# Altium schematic symbol library kmilo17pet-LT_OpAmp_LT1000.SchLib: 2280 symbols (part 73 of 79)
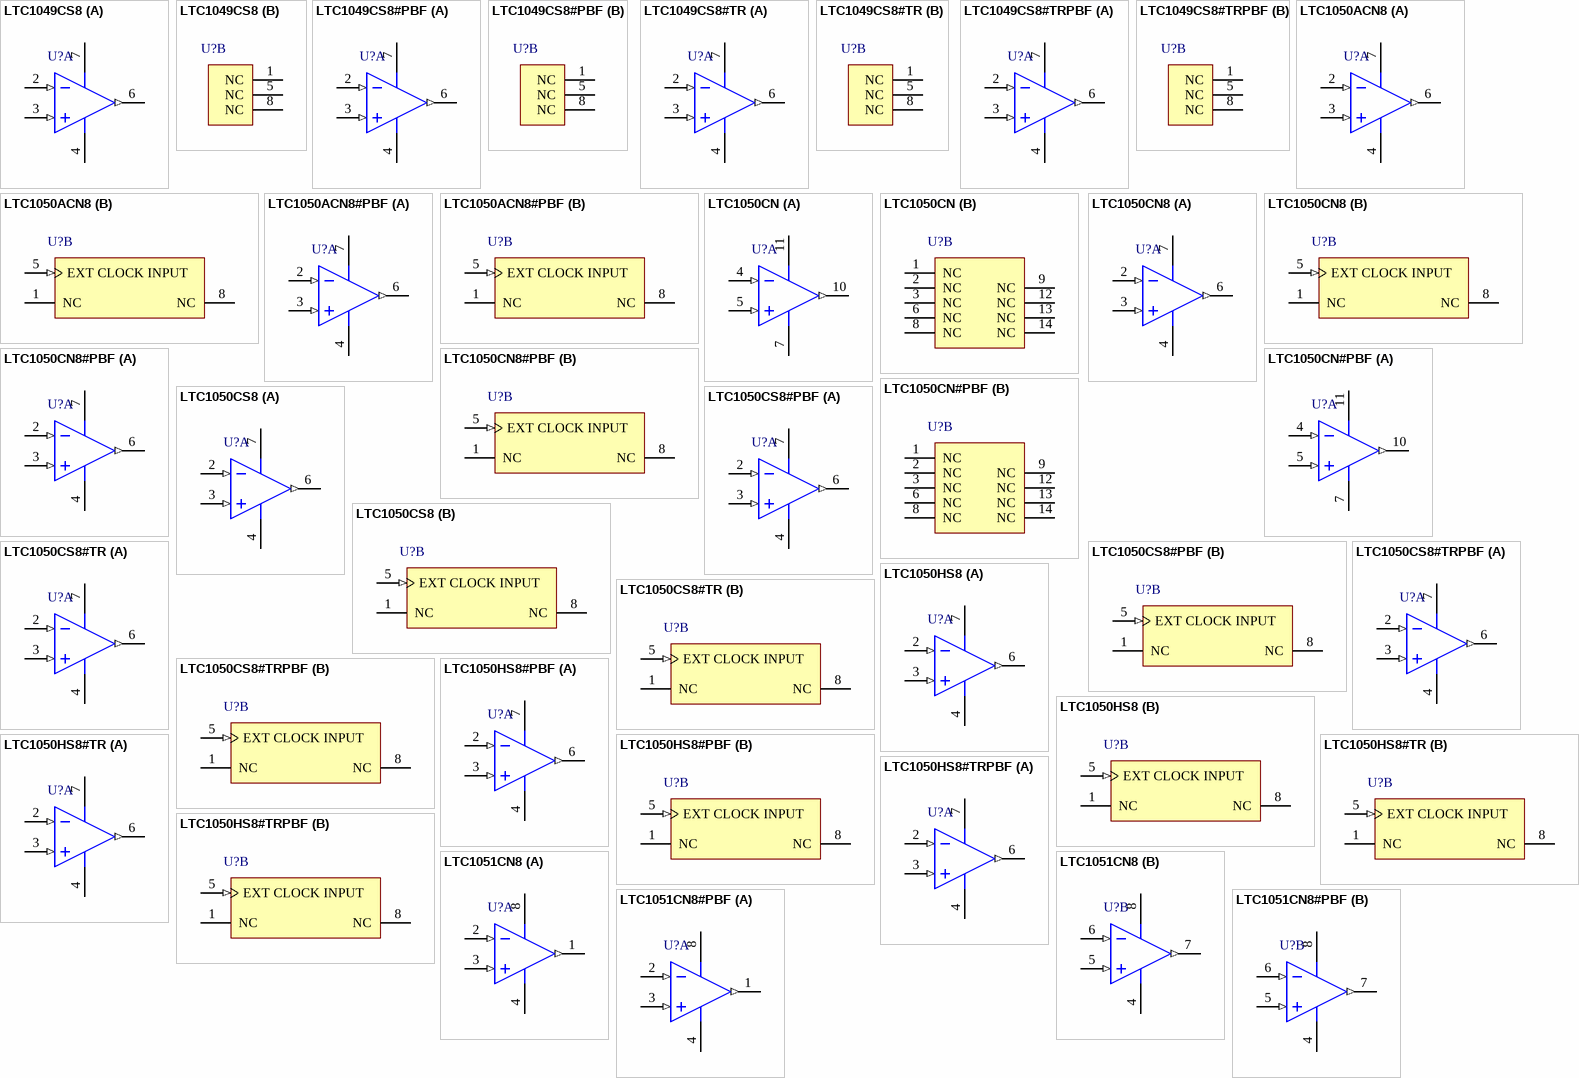
[diagram p177: symbols LTC1049CS8 to LTC1051CN8#PBF]

## LTC1049CS8#TR
designator U?
Single Channel, Low Power, Zero-Drift Operational Amplifier with Internal Capacitors, 0.8 MHz Typical GBW, 0.8 V/us Typical SR, 4.75 to 18 V, 8-Pin SOIC (S8-8), Commercial, Reel; Linear Technology Part Number: LTC1049; Manufacturer: Linear Technology; PartNumber: LTC1049CS8#TR; Channels (#): 1; GBW (MHz) Typical: 0.8; Is (mA) Typical: 0.2; Vos (mV) Typical: 0.002; Vs Max (V): 18; Vs Min (V): 4.75; DatasheetVersion: Rev. B; PackageVersion: Rev G; PackageReference: LT-S8-8; PackageDescription: 8-Pin Plastic Small Outline, Body 4.9 x 3.9 mm, Pitch 1.27 mm; Supplier 1: Digi-Key; Supplier Part Number 1: LTC1049CS8#TR-ND; Packing: Reel; SR (V/us) Typical: 0.8; Type: ZD; Mounting Technology: Surface Mount; ComponentLink1Description: Manufacturer URL; ComponentLink1URL: http://www.linear.com/; ComponentLink2Description: Datasheet; ComponentLink2URL: http://cds.linear.com/docs/en/datasheet/1049fb.pdf; ComponentLink3Description: Package Specification; ComponentLink3URL: http://cds.linear.com/docs/en/packaging/05081610_G_SO8.pdf
footprint LT-S8-8_N (SOIC, 8-Leads, Body 4.9x3.9mm, Pitch 1.27mm, IPC Medium Density)
footprint LT-S8-8_L (SOIC, 8-Leads, Body 4.9x3.9mm, Pitch 1.27mm, IPC High Density)
footprint LT-S8-8_M (SOIC, 8-Leads, Body 4.9x3.9mm, Pitch 1.27mm, IPC Low Density)
part A pins: 2 -IN (in), 3 +IN (in), 4 V- (power), 6 OUT (out), 7 V+ (power)
part B pins: 1 NC, 5 NC, 8 NC

## LTC1049CS8#TRPBF
designator U?
Single Channel, Low Power, Zero-Drift Operational Amplifier with Internal Capacitors, 0.8 MHz Typical GBW, 0.8 V/us Typical SR, 4.75 to 18 V, 8-Pin SOIC (S8-8), Commercial, Pb-Free, Reel; Linear Technology Part Number: LTC1049; Manufacturer: Linear Technology; PartNumber: LTC1049CS8#TRPBF; Channels (#): 1; GBW (MHz) Typical: 0.8; Is (mA) Typical: 0.2; Vos (mV) Typical: 0.002; Vs Max (V): 18; Vs Min (V): 4.75; DatasheetVersion: Rev. B; PackageVersion: Rev G; PackageReference: LT-S8-8; PackageDescription: 8-Pin Plastic Small Outline, Body 4.9 x 3.9 mm, Pitch 1.27 mm; Supplier 1: Digi-Key; Supplier Part Number 1: LTC1049CS8#TRPBF-ND; Packing: Reel; RoHS: Pb-Free; SR (V/us) Typical: 0.8; Type: ZD; Mounting Technology: Surface Mount; ComponentLink1Description: Manufacturer URL; ComponentLink1URL: http://www.linear.com/; ComponentLink2Description: Datasheet; ComponentLink2URL: http://cds.linear.com/docs/en/datasheet/1049fb.pdf; ComponentLink3Description: Package Specification; ComponentLink3URL: http://cds.linear.com/docs/en/packaging/05081610_G_SO8.pdf
footprint LT-S8-8_N (SOIC, 8-Leads, Body 4.9x3.9mm, Pitch 1.27mm, IPC Medium Density)
footprint LT-S8-8_L (SOIC, 8-Leads, Body 4.9x3.9mm, Pitch 1.27mm, IPC High Density)
footprint LT-S8-8_M (SOIC, 8-Leads, Body 4.9x3.9mm, Pitch 1.27mm, IPC Low Density)
part A pins: 2 -IN (in), 3 +IN (in), 4 V- (power), 6 OUT (out), 7 V+ (power)
part B pins: 1 NC, 5 NC, 8 NC

## LTC1050ACN8
designator U?
Single Channel, Precision, Zero-Drift Operational Amplifier with Internal Capacitors, 2.5 MHz Typical GBW, 4 V/us Typical SR, 4.75 to 18 V, 8-Pin DIP (N8-8), Commercial; Linear Technology Part Number: LTC1050; Manufacturer: Linear Technology; PartNumber: LTC1050ACN8; Channels (#): 1; GBW (MHz) Typical: 2.5; SR (V/us) Typical: 4; Vos (mV) Typical: 0.0005; Vs Max (V): 18; Vs Min (V): 4.75; PackageVersion: Rev I; PackageReference: LT-N8-8; PackageDescription: 8-Lead PDIP, Body 10.16 x 6.48 mm, Pitch 2.54 mm; Supplier 1: Digi-Key; Supplier Part Number 1: LTC1050ACN8-ND; Is (mA) Typical: 1; Type: ZD; Mounting Technology: Surface Mount; ComponentLink1Description: Manufacturer URL; ComponentLink1URL: http://www.linear.com/; ComponentLink2Description: Datasheet; ComponentLink2URL: http://cds.linear.com/docs/en/datasheet/1050fb.pdf; ComponentLink3Description: Package Specification; ComponentLink3URL: http://cds.linear.com/docs/en/packaging/05081510_I_N8.pdf
footprint LT-N8-8 (DIP, 8-Leads, Body 10.16x6.48mm, Pitch 2.54mm)
part A pins: 2 -IN (in), 3 +IN (in), 4 V- (power), 6 OUT (out), 7 V+ (power)
part B pins: 1 NC, 5 EXT CLOCK INPUT (in), 8 NC

## LTC1050ACN8#PBF
designator U?
Single Channel, Precision, Zero-Drift Operational Amplifier with Internal Capacitors, 2.5 MHz Typical GBW, 4 V/us Typical SR, 4.75 to 18 V, 8-Pin DIP (N8-8), Commercial, Pb-Free; Linear Technology Part Number: LTC1050; Manufacturer: Linear Technology; PartNumber: LTC1050ACN8#PBF; Channels (#): 1; GBW (MHz) Typical: 2.5; SR (V/us) Typical: 4; Vos (mV) Typical: 0.0005; Vs Max (V): 18; Vs Min (V): 4.75; PackageVersion: Rev I; PackageReference: LT-N8-8; PackageDescription: 8-Lead PDIP, Body 10.16 x 6.48 mm, Pitch 2.54 mm; Supplier 1: Digi-Key; Supplier Part Number 1: LTC1050ACN8#PBF-ND; Supplier 2: Newark; Supplier Part Number 2: 55M8934; Is (mA) Typical: 1; RoHS: Pb-Free; Type: ZD; Mounting Technology: Through Hole; ComponentLink1Description: Manufacturer URL; ComponentLink1URL: http://www.linear.com/; ComponentLink2Description: Datasheet; ComponentLink2URL: http://cds.linear.com/docs/en/datasheet/1050fb.pdf; ComponentLink3Description: Package Specification; ComponentLink3URL: http://cds.linear.com/docs/en/packaging/05081510_I_N8.pdf
footprint LT-N8-8 (DIP, 8-Leads, Body 10.16x6.48mm, Pitch 2.54mm)
part A pins: 2 -IN (in), 3 +IN (in), 4 V- (power), 6 OUT (out), 7 V+ (power)
part B pins: 1 NC, 5 EXT CLOCK INPUT (in), 8 NC

## LTC1050CN
designator U?
Single Channel, Precision, Zero-Drift Operational Amplifier with Internal Capacitors, 2.5 MHz Typical GBW, 4 V/us Typical SR, 4.75 to 18 V, 14-Pin DIP (N-14), Commercial; Linear Technology Part Number: LTC1050; Manufacturer: Linear Technology; PartNumber: LTC1050CN; Channels (#): 1; GBW (MHz) Typical: 2.5; SR (V/us) Typical: 4; Vos (mV) Typical: 0.0005; Vs Max (V): 18; Vs Min (V): 4.75; PackageVersion: Rev I; PackageReference: LT-N-14; PackageDescription: 14-Lead PDIP, Body 19.558 x 6.477 mm, Pitch 2.54 mm; Supplier 1: Digi-Key; Supplier Part Number 1: LTC1050CN-ND; Is (mA) Typical: 1; Type: ZD; Mounting Technology: Through Hole; ComponentLink1Description: Manufacturer URL; ComponentLink1URL: http://www.linear.com/; ComponentLink2Description: Datasheet; ComponentLink2URL: http://cds.linear.com/docs/en/datasheet/1050fb.pdf; ComponentLink3Description: Package Specification; ComponentLink3URL: http://cds.linear.com/docs/en/packaging/05081510_I_N14.pdf
footprint LT-N-14 (DIP, 14-Leads, Body 19.558x6.477mm, Pitch 2.54mm)
part A pins: 4 -IN (in), 5 +IN (in), 7 V- (power), 10 OUT (out), 11 V+ (power)
part B pins: 1 NC, 2 NC, 3 NC, 6 NC, 8 NC, 9 NC, 12 NC, 13 NC, 14 NC

## LTC1050CN8
designator U?
Single Channel, Precision, Zero-Drift Operational Amplifier with Internal Capacitors, 2.5 MHz Typical GBW, 4 V/us Typical SR, 4.75 to 18 V, 8-Pin DIP (N8-8), Commercial; Linear Technology Part Number: LTC1050; Manufacturer: Linear Technology; PartNumber: LTC1050CN8; Channels (#): 1; GBW (MHz) Typical: 2.5; SR (V/us) Typical: 4; Vos (mV) Typical: 0.0005; Vs Max (V): 18; Vs Min (V): 4.75; PackageVersion: Rev I; PackageReference: LT-N8-8; PackageDescription: 8-Lead PDIP, Body 10.16 x 6.48 mm, Pitch 2.54 mm; Supplier 1: Digi-Key; Supplier Part Number 1: LTC1050CN8-ND; Supplier 2: Newark; Supplier Part Number 2: 55M8937; Is (mA) Typical: 1; Type: ZD; Mounting Technology: Through Hole; ComponentLink1Description: Manufacturer URL; ComponentLink1URL: http://www.linear.com/; ComponentLink2Description: Datasheet; ComponentLink2URL: http://cds.linear.com/docs/en/datasheet/1050fb.pdf; ComponentLink3Description: Package Specification; ComponentLink3URL: http://cds.linear.com/docs/en/packaging/05081510_I_N8.pdf
footprint LT-N8-8 (DIP, 8-Leads, Body 10.16x6.48mm, Pitch 2.54mm)
part A pins: 2 -IN (in), 3 +IN (in), 4 V- (power), 6 OUT (out), 7 V+ (power)
part B pins: 1 NC, 5 EXT CLOCK INPUT (in), 8 NC

## LTC1050CN8#PBF
designator U?
Single Channel, Precision, Zero-Drift Operational Amplifier with Internal Capacitors, 2.5 MHz Typical GBW, 4 V/us Typical SR, 4.75 to 18 V, 8-Pin DIP (N8-8), Commercial, Pb-Free; Linear Technology Part Number: LTC1050; Manufacturer: Linear Technology; PartNumber: LTC1050CN8#PBF; Channels (#): 1; GBW (MHz) Typical: 2.5; SR (V/us) Typical: 4; Vos (mV) Typical: 0.0005; Vs Max (V): 18; Vs Min (V): 4.75; PackageVersion: Rev I; PackageReference: LT-N8-8; PackageDescription: 8-Lead PDIP, Body 10.16 x 6.48 mm, Pitch 2.54 mm; Supplier 1: Digi-Key; Supplier Part Number 1: LTC1050CN8#PBF-ND; Supplier 2: Farnell; Supplier Part Number 2: 9560769; Supplier 3: Newark; Supplier Part Number 3: 55M8938; Is (mA) Typical: 1; RoHS: Pb-Free; Type: ZD; Mounting Technology: Through Hole; ComponentLink1Description: Manufacturer URL; ComponentLink1URL: http://www.linear.com/; ComponentLink2Description: Datasheet; ComponentLink2URL: http://cds.linear.com/docs/en/datasheet/1050fb.pdf; ComponentLink3Description: Package Specification; ComponentLink3URL: http://cds.linear.com/docs/en/packaging/05081510_I_N8.pdf
footprint LT-N8-8 (DIP, 8-Leads, Body 10.16x6.48mm, Pitch 2.54mm)
part A pins: 2 -IN (in), 3 +IN (in), 4 V- (power), 6 OUT (out), 7 V+ (power)
part B pins: 1 NC, 5 EXT CLOCK INPUT (in), 8 NC

## LTC1050CN#PBF
designator U?
Single Channel, Precision, Zero-Drift Operational Amplifier with Internal Capacitors, 2.5 MHz Typical GBW, 4 V/us Typical SR, 4.75 to 18 V, 14-Pin DIP (N-14), Commercial, Pb-Free; Linear Technology Part Number: LTC1050; Manufacturer: Linear Technology; PartNumber: LTC1050CN#PBF; Channels (#): 1; GBW (MHz) Typical: 2.5; SR (V/us) Typical: 4; Vos (mV) Typical: 0.0005; Vs Max (V): 18; Vs Min (V): 4.75; PackageVersion: Rev I; PackageReference: LT-N-14; PackageDescription: 14-Lead PDIP, Body 19.558 x 6.477 mm, Pitch 2.54 mm; Supplier 1: Digi-Key; Supplier Part Number 1: LTC1050CN#PBF-ND; Is (mA) Typical: 1; RoHS: Pb-Free; Type: ZD; Mounting Technology: Through Hole; ComponentLink1Description: Manufacturer URL; ComponentLink1URL: http://www.linear.com/; ComponentLink2Description: Datasheet; ComponentLink2URL: http://cds.linear.com/docs/en/datasheet/1050fb.pdf; ComponentLink3Description: Package Specification; ComponentLink3URL: http://cds.linear.com/docs/en/packaging/05081510_I_N14.pdf
footprint LT-N-14 (DIP, 14-Leads, Body 19.558x6.477mm, Pitch 2.54mm)
part A pins: 4 -IN (in), 5 +IN (in), 7 V- (power), 10 OUT (out), 11 V+ (power)
part B pins: 1 NC, 2 NC, 3 NC, 6 NC, 8 NC, 9 NC, 12 NC, 13 NC, 14 NC

## LTC1050CS8
designator U?
Single Channel, Precision, Zero-Drift Operational Amplifier with Internal Capacitors, 2.5 MHz Typical GBW, 4 V/us Typical SR, 4.75 to 18 V, 8-Pin SOIC (S8-8), Commercial; Linear Technology Part Number: LTC1050; Manufacturer: Linear Technology; PartNumber: LTC1050CS8; Channels (#): 1; GBW (MHz) Typical: 2.5; SR (V/us) Typical: 4; Vos (mV) Typical: 0.0005; Vs Max (V): 18; Vs Min (V): 4.75; PackageVersion: Rev G; PackageReference: LT-S8-8; PackageDescription: 8-Pin Plastic Small Outline, Body 4.9 x 3.9 mm, Pitch 1.27 mm; Supplier 1: Digi-Key; Supplier Part Number 1: LTC1050CS8-ND; Supplier 2: Newark; Supplier Part Number 2: 55M8939; Is (mA) Typical: 1; Type: ZD; Mounting Technology: Surface Mount; ComponentLink1Description: Manufacturer URL; ComponentLink1URL: http://www.linear.com/; ComponentLink2Description: Datasheet; ComponentLink2URL: http://cds.linear.com/docs/en/datasheet/1050fb.pdf; ComponentLink3Description: Package Specification; ComponentLink3URL: http://cds.linear.com/docs/en/packaging/05081610_G_SO8.pdf
footprint LT-S8-8_N (SOIC, 8-Leads, Body 4.9x3.9mm, Pitch 1.27mm, IPC Medium Density)
footprint LT-S8-8_L (SOIC, 8-Leads, Body 4.9x3.9mm, Pitch 1.27mm, IPC High Density)
footprint LT-S8-8_M (SOIC, 8-Leads, Body 4.9x3.9mm, Pitch 1.27mm, IPC Low Density)
part A pins: 2 -IN (in), 3 +IN (in), 4 V- (power), 6 OUT (out), 7 V+ (power)
part B pins: 1 NC, 5 EXT CLOCK INPUT (in), 8 NC

## LTC1050CS8#PBF
designator U?
Single Channel, Precision, Zero-Drift Operational Amplifier with Internal Capacitors, 2.5 MHz Typical GBW, 4 V/us Typical SR, 4.75 to 18 V, 8-Pin SOIC (S8-8), Commercial, Pb-Free; Linear Technology Part Number: LTC1050; Manufacturer: Linear Technology; PartNumber: LTC1050CS8#PBF; Channels (#): 1; GBW (MHz) Typical: 2.5; SR (V/us) Typical: 4; Vos (mV) Typical: 0.0005; Vs Max (V): 18; Vs Min (V): 4.75; PackageVersion: Rev G; PackageReference: LT-S8-8; PackageDescription: 8-Pin Plastic Small Outline, Body 4.9 x 3.9 mm, Pitch 1.27 mm; Supplier 1: Digi-Key; Supplier Part Number 1: LTC1050CS8#PBF-ND; Supplier 2: Farnell; Supplier Part Number 2: 9560777; Supplier 3: Newark; Supplier Part Number 3: 55M8940; Is (mA) Typical: 1; RoHS: Pb-Free; Type: ZD; Mounting Technology: Surface Mount; ComponentLink1Description: Manufacturer URL; ComponentLink1URL: http://www.linear.com/; ComponentLink2Description: Datasheet; ComponentLink2URL: http://cds.linear.com/docs/en/datasheet/1050fb.pdf; ComponentLink3Description: Package Specification; ComponentLink3URL: http://cds.linear.com/docs/en/packaging/05081610_G_SO8.pdf
footprint LT-S8-8_N (SOIC, 8-Leads, Body 4.9x3.9mm, Pitch 1.27mm, IPC Medium Density)
footprint LT-S8-8_L (SOIC, 8-Leads, Body 4.9x3.9mm, Pitch 1.27mm, IPC High Density)
footprint LT-S8-8_M (SOIC, 8-Leads, Body 4.9x3.9mm, Pitch 1.27mm, IPC Low Density)
part A pins: 2 -IN (in), 3 +IN (in), 4 V- (power), 6 OUT (out), 7 V+ (power)
part B pins: 1 NC, 5 EXT CLOCK INPUT (in), 8 NC

## LTC1050CS8#TR
designator U?
Single Channel, Precision, Zero-Drift Operational Amplifier with Internal Capacitors, 2.5 MHz Typical GBW, 4 V/us Typical SR, 4.75 to 18 V, 8-Pin SOIC (S8-8), Commercial, Reel; Linear Technology Part Number: LTC1050; Manufacturer: Linear Technology; PartNumber: LTC1050CS8#TR; Channels (#): 1; GBW (MHz) Typical: 2.5; SR (V/us) Typical: 4; Vos (mV) Typical: 0.0005; Vs Max (V): 18; Vs Min (V): 4.75; PackageVersion: Rev G; PackageReference: LT-S8-8; PackageDescription: 8-Pin Plastic Small Outline, Body 4.9 x 3.9 mm, Pitch 1.27 mm; Supplier 1: Digi-Key; Supplier Part Number 1: LTC1050CS8#TR-ND; Is (mA) Typical: 1; Packing: Reel; Type: ZD; Mounting Technology: Surface Mount; ComponentLink1Description: Manufacturer URL; ComponentLink1URL: http://www.linear.com/; ComponentLink2Description: Datasheet; ComponentLink2URL: http://cds.linear.com/docs/en/datasheet/1050fb.pdf; ComponentLink3Description: Package Specification; ComponentLink3URL: http://cds.linear.com/docs/en/packaging/05081610_G_SO8.pdf
footprint LT-S8-8_N (SOIC, 8-Leads, Body 4.9x3.9mm, Pitch 1.27mm, IPC Medium Density)
footprint LT-S8-8_L (SOIC, 8-Leads, Body 4.9x3.9mm, Pitch 1.27mm, IPC High Density)
footprint LT-S8-8_M (SOIC, 8-Leads, Body 4.9x3.9mm, Pitch 1.27mm, IPC Low Density)
part A pins: 2 -IN (in), 3 +IN (in), 4 V- (power), 6 OUT (out), 7 V+ (power)
part B pins: 1 NC, 5 EXT CLOCK INPUT (in), 8 NC

## LTC1050CS8#TRPBF
designator U?
Single Channel, Precision, Zero-Drift Operational Amplifier with Internal Capacitors, 2.5 MHz Typical GBW, 4 V/us Typical SR, 4.75 to 18 V, 8-Pin SOIC (S8-8), Commercial, Pb-Free, Reel; Linear Technology Part Number: LTC1050; Manufacturer: Linear Technology; PartNumber: LTC1050CS8#TRPBF; Channels (#): 1; GBW (MHz) Typical: 2.5; SR (V/us) Typical: 4; Vos (mV) Typical: 0.0005; Vs Max (V): 18; Vs Min (V): 4.75; PackageVersion: Rev G; PackageReference: LT-S8-8; PackageDescription: 8-Pin Plastic Small Outline, Body 4.9 x 3.9 mm, Pitch 1.27 mm; Supplier 1: Digi-Key; Supplier Part Number 1: LTC1050CS8#TRPBFTR-ND; Supplier 2: Digi-Key; Supplier Part Number 2: LTC1050CS8#TRPBFCT-ND; Supplier 3: Digi-Key; Supplier Part Number 3: LTC1050CS8#TRPBFDKR-ND; Supplier 4: Newark; Supplier Part Number 4: 55M8942; Is (mA) Typical: 1; Packing: Reel; RoHS: Pb-Free; Type: ZD; Mounting Technology: Surface Mount; ComponentLink1Description: Manufacturer URL; ComponentLink1URL: http://www.linear.com/; ComponentLink2Description: Datasheet; ComponentLink2URL: http://cds.linear.com/docs/en/datasheet/1050fb.pdf; ComponentLink3Description: Package Specification; ComponentLink3URL: http://cds.linear.com/docs/en/packaging/05081610_G_SO8.pdf
footprint LT-S8-8_N (SOIC, 8-Leads, Body 4.9x3.9mm, Pitch 1.27mm, IPC Medium Density)
footprint LT-S8-8_L (SOIC, 8-Leads, Body 4.9x3.9mm, Pitch 1.27mm, IPC High Density)
footprint LT-S8-8_M (SOIC, 8-Leads, Body 4.9x3.9mm, Pitch 1.27mm, IPC Low Density)
part A pins: 2 -IN (in), 3 +IN (in), 4 V- (power), 6 OUT (out), 7 V+ (power)
part B pins: 1 NC, 5 EXT CLOCK INPUT (in), 8 NC

## LTC1050HS8
designator U?
Single Channel, Precision, Zero-Drift Operational Amplifier with Internal Capacitors, 2.5 MHz Typical GBW, 4 V/us Typical SR, 4.75 to 18 V, 8-Pin SOIC (S8-8), High Temperature / Automotive; Linear Technology Part Number: LTC1050; Manufacturer: Linear Technology; PartNumber: LTC1050HS8; Channels (#): 1; GBW (MHz) Typical: 2.5; SR (V/us) Typical: 4; Vos (mV) Typical: 0.0005; Vs Max (V): 18; Vs Min (V): 4.75; PackageVersion: Rev G; PackageReference: LT-S8-8; PackageDescription: 8-Pin Plastic Small Outline, Body 4.9 x 3.9 mm, Pitch 1.27 mm; Supplier 1: Digi-Key; Supplier Part Number 1: LTC1050HS8-ND; Is (mA) Typical: 1; Type: ZD; Mounting Technology: Surface Mount; ComponentLink1Description: Manufacturer URL; ComponentLink1URL: http://www.linear.com/; ComponentLink2Description: Datasheet; ComponentLink2URL: http://cds.linear.com/docs/en/datasheet/1050fb.pdf; ComponentLink3Description: Package Specification; ComponentLink3URL: http://cds.linear.com/docs/en/packaging/05081610_G_SO8.pdf
footprint LT-S8-8_N (SOIC, 8-Leads, Body 4.9x3.9mm, Pitch 1.27mm, IPC Medium Density)
footprint LT-S8-8_L (SOIC, 8-Leads, Body 4.9x3.9mm, Pitch 1.27mm, IPC High Density)
footprint LT-S8-8_M (SOIC, 8-Leads, Body 4.9x3.9mm, Pitch 1.27mm, IPC Low Density)
part A pins: 2 -IN (in), 3 +IN (in), 4 V- (power), 6 OUT (out), 7 V+ (power)
part B pins: 1 NC, 5 EXT CLOCK INPUT (in), 8 NC

## LTC1050HS8#PBF
designator U?
Single Channel, Precision, Zero-Drift Operational Amplifier with Internal Capacitors, 2.5 MHz Typical GBW, 4 V/us Typical SR, 4.75 to 18 V, 8-Pin SOIC (S8-8), High Temperature / Automotive, Pb-Free; Linear Technology Part Number: LTC1050; Manufacturer: Linear Technology; PartNumber: LTC1050HS8#PBF; Channels (#): 1; GBW (MHz) Typical: 2.5; SR (V/us) Typical: 4; Vos (mV) Typical: 0.0005; Vs Max (V): 18; Vs Min (V): 4.75; PackageVersion: Rev G; PackageReference: LT-S8-8; PackageDescription: 8-Pin Plastic Small Outline, Body 4.9 x 3.9 mm, Pitch 1.27 mm; Supplier 1: Digi-Key; Supplier Part Number 1: LTC1050HS8#PBF-ND; Supplier 2: Farnell; Supplier Part Number 2: 1330781; Supplier 3: Newark; Supplier Part Number 3: 55M8944; Is (mA) Typical: 1; RoHS: Pb-Free; Type: ZD; Mounting Technology: Surface Mount; ComponentLink1Description: Manufacturer URL; ComponentLink1URL: http://www.linear.com/; ComponentLink2Description: Datasheet; ComponentLink2URL: http://cds.linear.com/docs/en/datasheet/1050fb.pdf; ComponentLink3Description: Package Specification; ComponentLink3URL: http://cds.linear.com/docs/en/packaging/05081610_G_SO8.pdf
footprint LT-S8-8_N (SOIC, 8-Leads, Body 4.9x3.9mm, Pitch 1.27mm, IPC Medium Density)
footprint LT-S8-8_L (SOIC, 8-Leads, Body 4.9x3.9mm, Pitch 1.27mm, IPC High Density)
footprint LT-S8-8_M (SOIC, 8-Leads, Body 4.9x3.9mm, Pitch 1.27mm, IPC Low Density)
part A pins: 2 -IN (in), 3 +IN (in), 4 V- (power), 6 OUT (out), 7 V+ (power)
part B pins: 1 NC, 5 EXT CLOCK INPUT (in), 8 NC

## LTC1050HS8#TR
designator U?
Single Channel, Precision, Zero-Drift Operational Amplifier with Internal Capacitors, 2.5 MHz Typical GBW, 4 V/us Typical SR, 4.75 to 18 V, 8-Pin SOIC (S8-8), High Temperature / Automotive, Reel; Linear Technology Part Number: LTC1050; Manufacturer: Linear Technology; PartNumber: LTC1050HS8#TR; Channels (#): 1; GBW (MHz) Typical: 2.5; SR (V/us) Typical: 4; Vos (mV) Typical: 0.0005; Vs Max (V): 18; Vs Min (V): 4.75; PackageVersion: Rev G; PackageReference: LT-S8-8; PackageDescription: 8-Pin Plastic Small Outline, Body 4.9 x 3.9 mm, Pitch 1.27 mm; Supplier 1: Digi-Key; Supplier Part Number 1: LTC1050HS8#TR-ND; Is (mA) Typical: 1; Packing: Reel; Type: ZD; Mounting Technology: Surface Mount; ComponentLink1Description: Manufacturer URL; ComponentLink1URL: http://www.linear.com/; ComponentLink2Description: Datasheet; ComponentLink2URL: http://cds.linear.com/docs/en/datasheet/1050fb.pdf; ComponentLink3Description: Package Specification; ComponentLink3URL: http://cds.linear.com/docs/en/packaging/05081610_G_SO8.pdf
footprint LT-S8-8_N (SOIC, 8-Leads, Body 4.9x3.9mm, Pitch 1.27mm, IPC Medium Density)
footprint LT-S8-8_L (SOIC, 8-Leads, Body 4.9x3.9mm, Pitch 1.27mm, IPC High Density)
footprint LT-S8-8_M (SOIC, 8-Leads, Body 4.9x3.9mm, Pitch 1.27mm, IPC Low Density)
part A pins: 2 -IN (in), 3 +IN (in), 4 V- (power), 6 OUT (out), 7 V+ (power)
part B pins: 1 NC, 5 EXT CLOCK INPUT (in), 8 NC

## LTC1050HS8#TRPBF
designator U?
Single Channel, Precision, Zero-Drift Operational Amplifier with Internal Capacitors, 2.5 MHz Typical GBW, 4 V/us Typical SR, 4.75 to 18 V, 8-Pin SOIC (S8-8), High Temperature / Automotive, Pb-Free, Reel; Linear Technology Part Number: LTC1050; Manufacturer: Linear Technology; PartNumber: LTC1050HS8#TRPBF; Channels (#): 1; GBW (MHz) Typical: 2.5; SR (V/us) Typical: 4; Vos (mV) Typical: 0.0005; Vs Max (V): 18; Vs Min (V): 4.75; PackageVersion: Rev G; PackageReference: LT-S8-8; PackageDescription: 8-Pin Plastic Small Outline, Body 4.9 x 3.9 mm, Pitch 1.27 mm; Supplier 1: Digi-Key; Supplier Part Number 1: LTC1050HS8#TRPBF-ND; Is (mA) Typical: 1; Packing: Reel; RoHS: Pb-Free; Type: ZD; Mounting Technology: Surface Mount; ComponentLink1Description: Manufacturer URL; ComponentLink1URL: http://www.linear.com/; ComponentLink2Description: Datasheet; ComponentLink2URL: http://cds.linear.com/docs/en/datasheet/1050fb.pdf; ComponentLink3Description: Package Specification; ComponentLink3URL: http://cds.linear.com/docs/en/packaging/05081610_G_SO8.pdf
footprint LT-S8-8_N (SOIC, 8-Leads, Body 4.9x3.9mm, Pitch 1.27mm, IPC Medium Density)
footprint LT-S8-8_L (SOIC, 8-Leads, Body 4.9x3.9mm, Pitch 1.27mm, IPC High Density)
footprint LT-S8-8_M (SOIC, 8-Leads, Body 4.9x3.9mm, Pitch 1.27mm, IPC Low Density)
part A pins: 2 -IN (in), 3 +IN (in), 4 V- (power), 6 OUT (out), 7 V+ (power)
part B pins: 1 NC, 5 EXT CLOCK INPUT (in), 8 NC

## LTC1051CN8
designator U?
Dual Channel, Zero-Drift Operational Amplifier with Internal Capacitors, 2.5 MHz Typical GBW, 4 V/us Typical SR, 4.75 to 16.5 V, 8-Pin DIP (N8-8), Commercial; Linear Technology Part Number: LTC1051; Manufacturer: Linear Technology; PartNumber: LTC1051CN8; Channels (#): 2; GBW (MHz) Typical: 2.5; Is (mA) Typical: 1; SR (V/us) Typical: 4; Vos (mV) Typical: 0.0005; Vs Max (V): 16.5; Vs Min (V): 4.75; DatasheetVersion: Rev. A; PackageVersion: Rev I; PackageReference: LT-N8-8; PackageDescription: 8-Lead PDIP, Body 10.16 x 6.48 mm, Pitch 2.54 mm; Supplier 1: Digi-Key; Supplier Part Number 1: LTC1051CN8-ND; Type: ZD; Mounting Technology: Surface Mount; ComponentLink1Description: Manufacturer URL; ComponentLink1URL: http://www.linear.com/; ComponentLink2Description: Datasheet; ComponentLink2URL: http://cds.linear.com/docs/en/datasheet/10513fa.pdf; ComponentLink3Description: Package Specification; ComponentLink3URL: http://cds.linear.com/docs/en/packaging/05081510_I_N8.pdf
footprint LT-N8-8 (DIP, 8-Leads, Body 10.16x6.48mm, Pitch 2.54mm)
pins on every part: 4 V- (power), 8 V+ (power)
part A pins: 1 OUT A (out), 2 -IN A (in), 3 +IN A (in)
part B pins: 5 +IN B (in), 6 -IN B (in), 7 OUT B (out)

## LTC1051CN8#PBF
designator U?
Dual Channel, Zero-Drift Operational Amplifier with Internal Capacitors, 2.5 MHz Typical GBW, 4 V/us Typical SR, 4.75 to 16.5 V, 8-Pin DIP (N8-8), Commercial, Pb-Free; Linear Technology Part Number: LTC1051; Manufacturer: Linear Technology; PartNumber: LTC1051CN8#PBF; Channels (#): 2; GBW (MHz) Typical: 2.5; Is (mA) Typical: 1; SR (V/us) Typical: 4; Vos (mV) Typical: 0.0005; Vs Max (V): 16.5; Vs Min (V): 4.75; DatasheetVersion: Rev. A; PackageVersion: Rev I; PackageReference: LT-N8-8; PackageDescription: 8-Lead PDIP, Body 10.16 x 6.48 mm, Pitch 2.54 mm; Supplier 1: Digi-Key; Supplier Part Number 1: LTC1051CN8#PBF-ND; Supplier 2: Farnell; Supplier Part Number 2: 9560785; Supplier 3: Newark; Supplier Part Number 3: 55M8948; RoHS: Pb-Free; Type: ZD; Mounting Technology: Through Hole; ComponentLink1Description: Manufacturer URL; ComponentLink1URL: http://www.linear.com/; ComponentLink2Description: Datasheet; ComponentLink2URL: http://cds.linear.com/docs/en/datasheet/10513fa.pdf; ComponentLink3Description: Package Specification; ComponentLink3URL: http://cds.linear.com/docs/en/packaging/05081510_I_N8.pdf
footprint LT-N8-8 (DIP, 8-Leads, Body 10.16x6.48mm, Pitch 2.54mm)
pins on every part: 4 V- (power), 8 V+ (power)
part A pins: 1 OUT A (out), 2 -IN A (in), 3 +IN A (in)
part B pins: 5 +IN B (in), 6 -IN B (in), 7 OUT B (out)

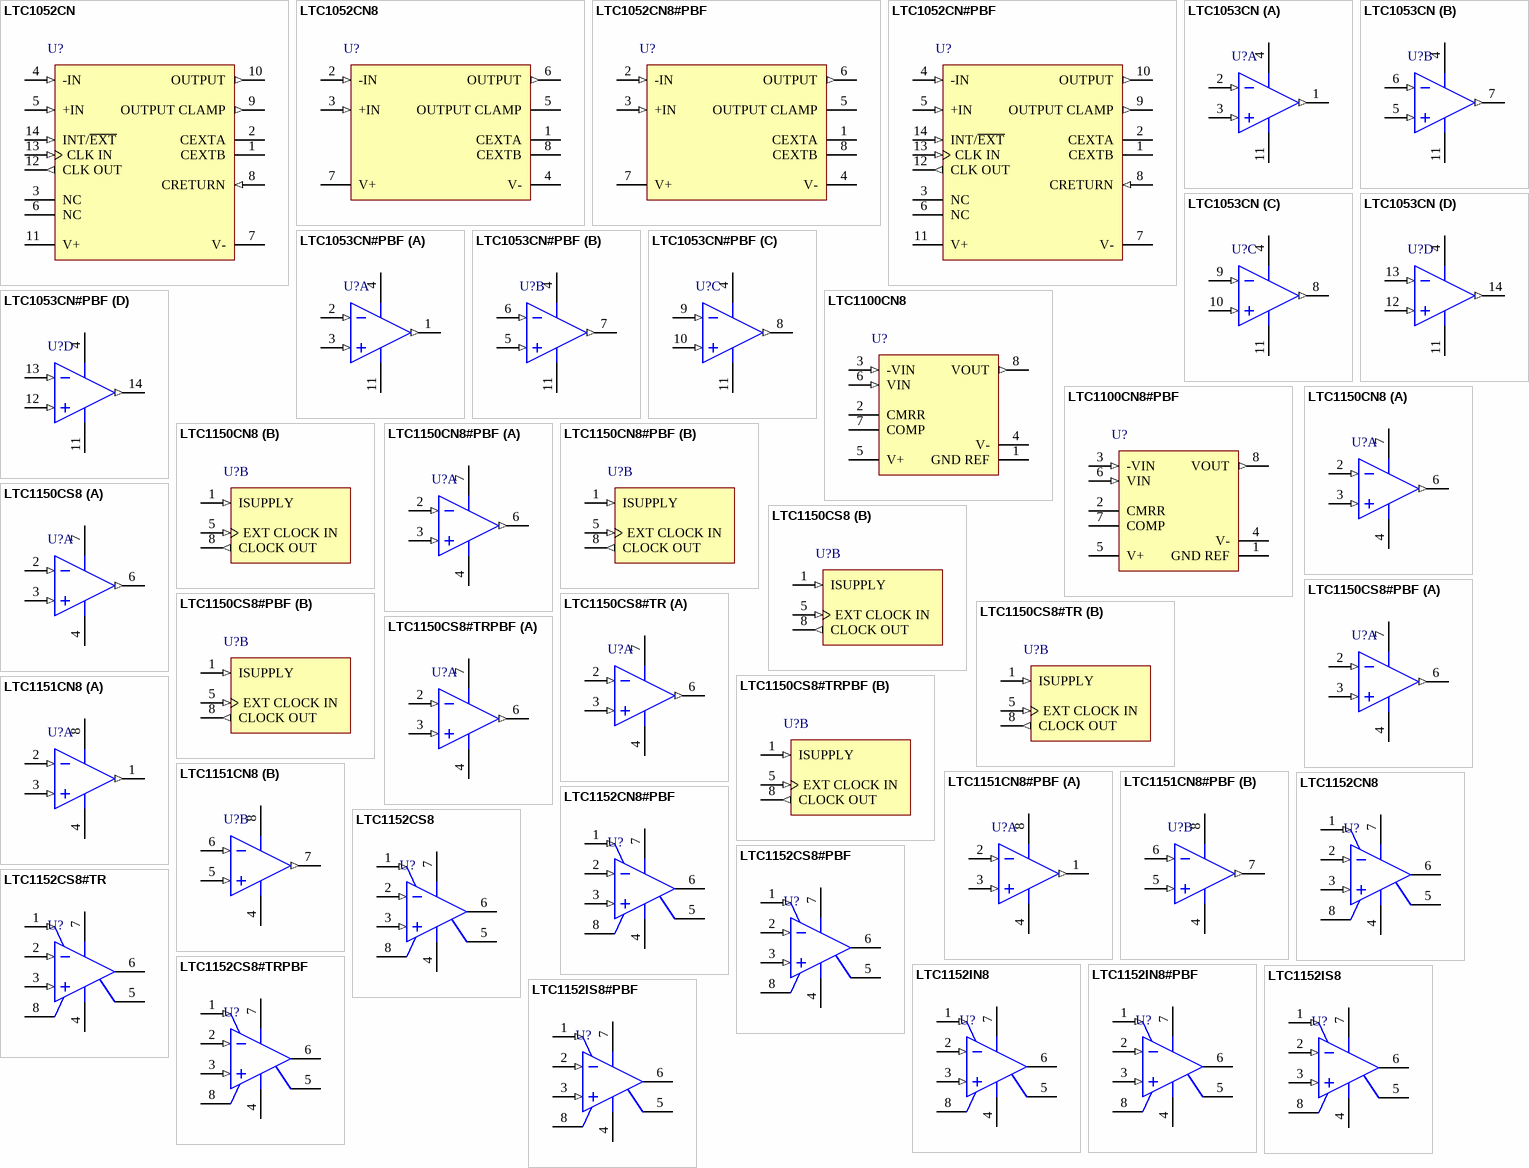
[diagram p102: symbols LTC1052CN to LTC1152IS8#PBF]

## LTC1052CN
designator U?
Single Channel, Low Noise, Zero-Drift Operational Amplifier, 1.2 MHz Typical GBW, 4 V/us Typical SR, 4.75 to 18 V, 14-Pin DIP (N-14), Commercial; Linear Technology Part Number: LTC1052; Manufacturer: Linear Technology; PartNumber: LTC1052CN; Channels (#): 1; GBW (MHz) Typical: 1.2; Is (mA) Typical: 1.7; SR (V/us) Typical: 4; Vos (mV) Typical: 0.0005; Vs Max (V): 18; Vs Min (V): 4.75; DatasheetVersion: Rev. A; PackageVersion: Rev I; PackageReference: LT-N-14; PackageDescription: 14-Lead PDIP, Body 19.558 x 6.477 mm, Pitch 2.54 mm; Type: ZD; Mounting Technology: Surface Mount; ComponentLink1Description: Manufacturer URL; ComponentLink1URL: http://www.linear.com/; ComponentLink2Description: Datasheet; ComponentLink2URL: http://cds.linear.com/docs/en/datasheet/1052fa.pdf; ComponentLink3Description: Package Specification; ComponentLink3URL: http://cds.linear.com/docs/en/packaging/05081510_I_N14.pdf
footprint LT-N-14 (DIP, 14-Leads, Body 19.558x6.477mm, Pitch 2.54mm)
pins: 1 CEXTB, 2 CEXTA, 3 NC, 4 -IN (in), 5 +IN (in), 6 NC, 7 V- (power), 8 CRETURN (in), 9 OUTPUT CLAMP (out), 10 OUTPUT (out), 11 V+ (power), 12 CLK OUT (out), 13 CLK IN (in), 14 INT/~{EXT} (in)

## LTC1052CN8
designator U?
Single Channel, Low Noise, Zero-Drift Operational Amplifier, 1.2 MHz Typical GBW, 4 V/us Typical SR, 4.75 to 18 V, 8-Pin DIP (N8-8), Commercial; Linear Technology Part Number: LTC1052; Manufacturer: Linear Technology; PartNumber: LTC1052CN8; Channels (#): 1; GBW (MHz) Typical: 1.2; Is (mA) Typical: 1.7; SR (V/us) Typical: 4; Vos (mV) Typical: 0.0005; Vs Max (V): 18; Vs Min (V): 4.75; DatasheetVersion: Rev. A; PackageVersion: Rev I; PackageReference: LT-N8-8; PackageDescription: 8-Lead PDIP, Body 10.16 x 6.48 mm, Pitch 2.54 mm; Type: ZD; Mounting Technology: Through Hole; ComponentLink1Description: Manufacturer URL; ComponentLink1URL: http://www.linear.com/; ComponentLink2Description: Datasheet; ComponentLink2URL: http://cds.linear.com/docs/en/datasheet/1052fa.pdf; ComponentLink3Description: Package Specification; ComponentLink3URL: http://cds.linear.com/docs/en/packaging/05081510_I_N8.pdf
footprint LT-N8-8 (DIP, 8-Leads, Body 10.16x6.48mm, Pitch 2.54mm)
pins: 1 CEXTA, 2 -IN (in), 3 +IN (in), 4 V- (power), 5 OUTPUT CLAMP, 6 OUTPUT (out), 7 V+ (power), 8 CEXTB

## LTC1052CN8#PBF
designator U?
Single Channel, Low Noise, Zero-Drift Operational Amplifier, 1.2 MHz Typical GBW, 4 V/us Typical SR, 4.75 to 18 V, 8-Pin DIP (N8-8), Commercial, Pb-Free; Linear Technology Part Number: LTC1052; Manufacturer: Linear Technology; PartNumber: LTC1052CN8#PBF; Channels (#): 1; GBW (MHz) Typical: 1.2; Is (mA) Typical: 1.7; SR (V/us) Typical: 4; Vos (mV) Typical: 0.0005; Vs Max (V): 18; Vs Min (V): 4.75; DatasheetVersion: Rev. A; PackageVersion: Rev I; PackageReference: LT-N8-8; PackageDescription: 8-Lead PDIP, Body 10.16 x 6.48 mm, Pitch 2.54 mm; Supplier 1: Digi-Key; Supplier Part Number 1: LTC1052CN8#PBF-ND; Supplier 2: Farnell; Supplier Part Number 2: 1663594; Supplier 3: Newark; Supplier Part Number 3: 55M8956; RoHS: Pb-Free; Type: ZD; Mounting Technology: Through Hole; ComponentLink1Description: Manufacturer URL; ComponentLink1URL: http://www.linear.com/; ComponentLink2Description: Datasheet; ComponentLink2URL: http://cds.linear.com/docs/en/datasheet/1052fa.pdf; ComponentLink3Description: Package Specification; ComponentLink3URL: http://cds.linear.com/docs/en/packaging/05081510_I_N8.pdf
footprint LT-N8-8 (DIP, 8-Leads, Body 10.16x6.48mm, Pitch 2.54mm)
pins: 1 CEXTA, 2 -IN (in), 3 +IN (in), 4 V- (power), 5 OUTPUT CLAMP, 6 OUTPUT (out), 7 V+ (power), 8 CEXTB

## LTC1052CN#PBF
designator U?
Single Channel, Low Noise, Zero-Drift Operational Amplifier, 1.2 MHz Typical GBW, 4 V/us Typical SR, 4.75 to 18 V, 14-Pin DIP (N-14), Commercial, Pb-Free; Linear Technology Part Number: LTC1052; Manufacturer: Linear Technology; PartNumber: LTC1052CN#PBF; Channels (#): 1; GBW (MHz) Typical: 1.2; Is (mA) Typical: 1.7; SR (V/us) Typical: 4; Vos (mV) Typical: 0.0005; Vs Max (V): 18; Vs Min (V): 4.75; DatasheetVersion: Rev. A; PackageVersion: Rev I; PackageReference: LT-N-14; PackageDescription: 14-Lead PDIP, Body 19.558 x 6.477 mm, Pitch 2.54 mm; Supplier 1: Digi-Key; Supplier Part Number 1: LTC1052CN#PBF-ND; Supplier 2: Farnell; Supplier Part Number 2: 2308564; Supplier 3: Newark; Supplier Part Number 3: 55M8954; RoHS: Pb-Free; Type: ZD; Mounting Technology: Through Hole; ComponentLink1Description: Manufacturer URL; ComponentLink1URL: http://www.linear.com/; ComponentLink2Description: Datasheet; ComponentLink2URL: http://cds.linear.com/docs/en/datasheet/1052fa.pdf; ComponentLink3Description: Package Specification; ComponentLink3URL: http://cds.linear.com/docs/en/packaging/05081510_I_N14.pdf
footprint LT-N-14 (DIP, 14-Leads, Body 19.558x6.477mm, Pitch 2.54mm)
pins: 1 CEXTB, 2 CEXTA, 3 NC, 4 -IN (in), 5 +IN (in), 6 NC, 7 V- (power), 8 CRETURN (in), 9 OUTPUT CLAMP (out), 10 OUTPUT (out), 11 V+ (power), 12 CLK OUT (out), 13 CLK IN (in), 14 INT/~{EXT} (in)

## LTC1053CN
designator U?
Quad Channel, Zero-Drift Operational Amplifier with Internal Capacitors, 2.5 MHz Typical GBW, 4 V/us Typical SR, 4.75 to 16.5 V, 14-Pin DIP (N-14), Commercial; Linear Technology Part Number: LTC1053; Manufacturer: Linear Technology; PartNumber: LTC1053CN; Channels (#): 4; GBW (MHz) Typical: 2.5; Is (mA) Typical: 1; Vos (mV) Typical: 0.0005; Vs Max (V): 16.5; Vs Min (V): 4.75; DatasheetVersion: Rev. A; PackageVersion: Rev I; PackageReference: LT-N-14; PackageDescription: 14-Lead PDIP, Body 19.558 x 6.477 mm, Pitch 2.54 mm; Supplier 1: Digi-Key; Supplier Part Number 1: LTC1053CN-ND; SR (V/us) Typical: 4; Type: ZD; Mounting Technology: Surface Mount; ComponentLink1Description: Manufacturer URL; ComponentLink1URL: http://www.linear.com/; ComponentLink2Description: Datasheet; ComponentLink2URL: http://cds.linear.com/docs/en/datasheet/10513fa.pdf; ComponentLink3Description: Package Specification; ComponentLink3URL: http://cds.linear.com/docs/en/packaging/05081510_I_N14.pdf
footprint LT-N-14 (DIP, 14-Leads, Body 19.558x6.477mm, Pitch 2.54mm)
pins on every part: 4 V+ (power), 11 V- (power)
part A pins: 1 OUT A (out), 2 -IN A (in), 3 +IN A (in)
part B pins: 5 +IN B (in), 6 -IN B (in), 7 OUT B (out)
part C pins: 8 OUT C (out), 9 -IN C (in), 10 +IN C (in)
part D pins: 12 +IN D (in), 13 -IN D (in), 14 OUT D (out)

## LTC1053CN#PBF
designator U?
Quad Channel, Zero-Drift Operational Amplifier with Internal Capacitors, 2.5 MHz Typical GBW, 4 V/us Typical SR, 4.75 to 16.5 V, 14-Pin DIP (N-14), Commercial, Pb-Free; Linear Technology Part Number: LTC1053; Manufacturer: Linear Technology; PartNumber: LTC1053CN#PBF; Channels (#): 4; GBW (MHz) Typical: 2.5; Is (mA) Typical: 1; Vos (mV) Typical: 0.0005; Vs Max (V): 16.5; Vs Min (V): 4.75; DatasheetVersion: Rev. A; PackageVersion: Rev I; PackageReference: LT-N-14; PackageDescription: 14-Lead PDIP, Body 19.558 x 6.477 mm, Pitch 2.54 mm; Supplier 1: Digi-Key; Supplier Part Number 1: LTC1053CN#PBF-ND; Supplier 2: Newark; Supplier Part Number 2: 55M8962; RoHS: Pb-Free; SR (V/us) Typical: 4; Type: ZD; Mounting Technology: Through Hole; ComponentLink1Description: Manufacturer URL; ComponentLink1URL: http://www.linear.com/; ComponentLink2Description: Datasheet; ComponentLink2URL: http://cds.linear.com/docs/en/datasheet/10513fa.pdf; ComponentLink3Description: Package Specification; ComponentLink3URL: http://cds.linear.com/docs/en/packaging/05081510_I_N14.pdf
footprint LT-N-14 (DIP, 14-Leads, Body 19.558x6.477mm, Pitch 2.54mm)
pins on every part: 4 V+ (power), 11 V- (power)
part A pins: 1 OUT A (out), 2 -IN A (in), 3 +IN A (in)
part B pins: 5 +IN B (in), 6 -IN B (in), 7 OUT B (out)
part C pins: 8 OUT C (out), 9 -IN C (in), 10 +IN C (in)
part D pins: 12 +IN D (in), 13 -IN D (in), 14 OUT D (out)

## LTC1100CN8
designator U?
Single Channel, Precision, Zero-Drift Instrumentation Amplifier, 1.8 MHz Typical GBW, 3 V/us Typical SR, 4 to 18 V, 8-Pin DIP (N8-8), Commercial; Linear Technology Part Number: LTC1100; Manufacturer: Linear Technology; PartNumber: LTC1100CN8; Channels (#): 1; GBW (MHz) Typical: 1.8; Is (mA) Typical: 2.4; SR (V/us) Typical: 3; Vos (mV) Typical: 0.001; Vs Max (V): 18; Vs Min (V): 4; DatasheetVersion: Rev. C; PackageVersion: Rev I; PackageReference: LT-N8-8; PackageDescription: 8-Lead PDIP, Body 10.16 x 6.48 mm, Pitch 2.54 mm; Supplier 1: Digi-Key; Supplier Part Number 1: LTC1100CN8-ND; Supplier 2: Newark; Supplier Part Number 2: 55M9247; Type: IA; Mounting Technology: Through Hole; ComponentLink1Description: Manufacturer URL; ComponentLink1URL: http://www.linear.com/; ComponentLink2Description: Datasheet; ComponentLink2URL: http://cds.linear.com/docs/en/datasheet/1100fc.pdf; ComponentLink3Description: Package Specification; ComponentLink3URL: http://cds.linear.com/docs/en/packaging/05081510_I_N8.pdf
footprint LT-N8-8 (DIP, 8-Leads, Body 10.16x6.48mm, Pitch 2.54mm)
pins: 1 GND REF (power) "Connect to system ground. This sets the zero reference for the internal op amps.", 2 CMRR "This pin tailors the gain of the internal amplifiers to maximize AC CMRR. For applications which emphasize CMRR requirements, connect a 100k resistor and a 10pF capacitor in series from CMRR to ground. See the Applications (See Datasheet)", 3 -VIN (in) "Inverting Input.", 4 V- (power) "Negative Supply.", 5 V+ (power) "Positive Supply.", 6 VIN (in) "Noninverting Input.", 7 COMP "This pin reduces the bandwidth of the internal amplifiers for applications at or near DC. Clock feedthrough from the internal sampling clock can also be suppressed by using the COMP pin. The standard compensation circuit is (See Datasheet)", 8 VOUT (out) "Signal Output."

## LTC1100CN8#PBF
designator U?
Single Channel, Precision, Zero-Drift Instrumentation Amplifier, 1.8 MHz Typical GBW, 3 V/us Typical SR, 4 to 18 V, 8-Pin DIP (N8-8), Commercial, Pb-Free; Linear Technology Part Number: LTC1100; Manufacturer: Linear Technology; PartNumber: LTC1100CN8#PBF; Channels (#): 1; GBW (MHz) Typical: 1.8; Is (mA) Typical: 2.4; SR (V/us) Typical: 3; Vos (mV) Typical: 0.001; Vs Max (V): 18; Vs Min (V): 4; DatasheetVersion: Rev. C; PackageVersion: Rev I; PackageReference: LT-N8-8; PackageDescription: 8-Lead PDIP, Body 10.16 x 6.48 mm, Pitch 2.54 mm; Supplier 1: Digi-Key; Supplier Part Number 1: LTC1100CN8#PBF-ND; Supplier 2: Farnell; Supplier Part Number 2: 9560866; Supplier 3: Newark; Supplier Part Number 3: 55M9248; RoHS: Pb-Free; Type: IA; Mounting Technology: Through Hole; ComponentLink1Description: Manufacturer URL; ComponentLink1URL: http://www.linear.com/; ComponentLink2Description: Datasheet; ComponentLink2URL: http://cds.linear.com/docs/en/datasheet/1100fc.pdf; ComponentLink3Description: Package Specification; ComponentLink3URL: http://cds.linear.com/docs/en/packaging/05081510_I_N8.pdf
footprint LT-N8-8 (DIP, 8-Leads, Body 10.16x6.48mm, Pitch 2.54mm)
pins: 1 GND REF (power) "Connect to system ground. This sets the zero reference for the internal op amps.", 2 CMRR "This pin tailors the gain of the internal amplifiers to maximize AC CMRR. For applications which emphasize CMRR requirements, connect a 100k resistor and a 10pF capacitor in series from CMRR to ground. See the Applications (See Datasheet)", 3 -VIN (in) "Inverting Input.", 4 V- (power) "Negative Supply.", 5 V+ (power) "Positive Supply.", 6 VIN (in) "Noninverting Input.", 7 COMP "This pin reduces the bandwidth of the internal amplifiers for applications at or near DC. Clock feedthrough from the internal sampling clock can also be suppressed by using the COMP pin. The standard compensation circuit is (See Datasheet)", 8 VOUT (out) "Signal Output."

## LTC1150CN8
designator U?
Single Channel, Zero-Drift Operational Amplifier with Internal Capacitors, 2.5 MHz Typical GBW, 3 V/us Typical SR, 4.75 to 32 V, 8-Pin DIP (N8-8), Commercial; Linear Technology Part Number: LTC1150; Manufacturer: Linear Technology; PartNumber: LTC1150CN8; Channels (#): 1; GBW (MHz) Typical: 2.5; Is (mA) Typical: 0.8; SR (V/us) Typical: 3; Vos (mV) Typical: 0.0005; Vs Max (V): 32; Vs Min (V): 4.75; DatasheetVersion: Rev. B; PackageVersion: Rev I; PackageReference: LT-N8-8; PackageDescription: 8-Lead PDIP, Body 10.16 x 6.48 mm, Pitch 2.54 mm; Supplier 1: Digi-Key; Supplier Part Number 1: LTC1150CN8-ND; Supplier 2: Newark; Supplier Part Number 2: 55M9395; Type: ZD; Mounting Technology: Surface Mount; ComponentLink1Description: Manufacturer URL; ComponentLink1URL: http://www.linear.com/; ComponentLink2Description: Datasheet; ComponentLink2URL: http://cds.linear.com/docs/en/datasheet/1150fb.pdf; ComponentLink3Description: Package Specification; ComponentLink3URL: http://cds.linear.com/docs/en/packaging/05081510_I_N8.pdf
footprint LT-N8-8 (DIP, 8-Leads, Body 10.16x6.48mm, Pitch 2.54mm)
part A pins: 2 -IN (in) "Inverting Input.", 3 +IN (in) "Noninverting Input.", 4 V- (power) "Negative Supply.", 6 OUT (out) "Output.", 7 V+ (power) "Positive Supply."
part B pins: 1 ISUPPLY (in) "Supply Current Programming. The supply current can be programmed through Pin 1. When Pin 1 is left open or tied to V+, the supply current defaults to 800uA. Tying a resistor between Pin 1 and Pin 4, the negative supply pin, (See Datasheet)", 5 EXT CLOCK IN (in) "Optional External Clock Input. The LTC1150 has an internal oscillator to control the circuit operation of the amplifier if Pin 5 is left open or biased at any DC voltage in the supply voltage range. When an external clock is (See Datasheet)", 8 CLOCK OUT (out) "Clock Output. The signal coming out of this pin is at the internal oscillator frequency of about 2.2kHz (four times the chopping frequency) and has voltage levels at VH = VS and VL = VS -4.6. If the circuit is driven by an (See Datasheet)"

## LTC1150CN8#PBF
designator U?
Single Channel, Zero-Drift Operational Amplifier with Internal Capacitors, 2.5 MHz Typical GBW, 3 V/us Typical SR, 4.75 to 32 V, 8-Pin DIP (N8-8), Commercial, Pb-Free; Linear Technology Part Number: LTC1150; Manufacturer: Linear Technology; PartNumber: LTC1150CN8#PBF; Channels (#): 1; GBW (MHz) Typical: 2.5; Is (mA) Typical: 0.8; SR (V/us) Typical: 3; Vos (mV) Typical: 0.0005; Vs Max (V): 32; Vs Min (V): 4.75; DatasheetVersion: Rev. B; PackageVersion: Rev I; PackageReference: LT-N8-8; PackageDescription: 8-Lead PDIP, Body 10.16 x 6.48 mm, Pitch 2.54 mm; Supplier 1: Digi-Key; Supplier Part Number 1: LTC1150CN8#PBF-ND; Supplier 2: Farnell; Supplier Part Number 2: 9560874; Supplier 3: Newark; Supplier Part Number 3: 55M9396; RoHS: Pb-Free; Type: ZD; Mounting Technology: Through Hole; ComponentLink1Description: Manufacturer URL; ComponentLink1URL: http://www.linear.com/; ComponentLink2Description: Datasheet; ComponentLink2URL: http://cds.linear.com/docs/en/datasheet/1150fb.pdf; ComponentLink3Description: Package Specification; ComponentLink3URL: http://cds.linear.com/docs/en/packaging/05081510_I_N8.pdf
footprint LT-N8-8 (DIP, 8-Leads, Body 10.16x6.48mm, Pitch 2.54mm)
part A pins: 2 -IN (in) "Inverting Input.", 3 +IN (in) "Noninverting Input.", 4 V- (power) "Negative Supply.", 6 OUT (out) "Output.", 7 V+ (power) "Positive Supply."
part B pins: 1 ISUPPLY (in) "Supply Current Programming. The supply current can be programmed through Pin 1. When Pin 1 is left open or tied to V+, the supply current defaults to 800uA. Tying a resistor between Pin 1 and Pin 4, the negative supply pin, (See Datasheet)", 5 EXT CLOCK IN (in) "Optional External Clock Input. The LTC1150 has an internal oscillator to control the circuit operation of the amplifier if Pin 5 is left open or biased at any DC voltage in the supply voltage range. When an external clock is (See Datasheet)", 8 CLOCK OUT (out) "Clock Output. The signal coming out of this pin is at the internal oscillator frequency of about 2.2kHz (four times the chopping frequency) and has voltage levels at VH = VS and VL = VS -4.6. If the circuit is driven by an (See Datasheet)"

## LTC1150CS8
designator U?
Single Channel, Zero-Drift Operational Amplifier with Internal Capacitors, 2.5 MHz Typical GBW, 3 V/us Typical SR, 4.75 to 32 V, 8-Pin SOIC (S8-8), Commercial; Linear Technology Part Number: LTC1150; Manufacturer: Linear Technology; PartNumber: LTC1150CS8; Channels (#): 1; GBW (MHz) Typical: 2.5; Is (mA) Typical: 0.8; SR (V/us) Typical: 3; Vos (mV) Typical: 0.0005; Vs Max (V): 32; Vs Min (V): 4.75; DatasheetVersion: Rev. B; PackageVersion: Rev G; PackageReference: LT-S8-8; PackageDescription: 8-Pin Plastic Small Outline, Body 4.9 x 3.9 mm, Pitch 1.27 mm; Supplier 1: Digi-Key; Supplier Part Number 1: LTC1150CS8-ND; Supplier 2: Newark; Supplier Part Number 2: 55M9397; Type: ZD; Mounting Technology: Surface Mount; ComponentLink1Description: Manufacturer URL; ComponentLink1URL: http://www.linear.com/; ComponentLink2Description: Datasheet; ComponentLink2URL: http://cds.linear.com/docs/en/datasheet/1150fb.pdf; ComponentLink3Description: Package Specification; ComponentLink3URL: http://cds.linear.com/docs/en/packaging/05081610_G_SO8.pdf
footprint LT-S8-8_N (SOIC, 8-Leads, Body 4.9x3.9mm, Pitch 1.27mm, IPC Medium Density)
footprint LT-S8-8_L (SOIC, 8-Leads, Body 4.9x3.9mm, Pitch 1.27mm, IPC High Density)
footprint LT-S8-8_M (SOIC, 8-Leads, Body 4.9x3.9mm, Pitch 1.27mm, IPC Low Density)
part A pins: 2 -IN (in) "Inverting Input.", 3 +IN (in) "Noninverting Input.", 4 V- (power) "Negative Supply", 6 OUT (out) "Output.", 7 V+ (power) "Positive Supply."
part B pins: 1 ISUPPLY (in) "Supply Current Programming. The supply current can be programmed through Pin 1. When Pin 1 is left open or tied to V+, the supply current defaults to 800uA. Tying a resistor between Pin 1 and Pin 4, the negative supply pin, (See Datasheet)", 5 EXT CLOCK IN (in) "Optional External Clock Input. The LTC1150 has an internal oscillator to control the circuit operation of the amplifier if Pin 5 is left open or biased at any DC voltage in the supply voltage range. When an external clock is (See Datasheet)", 8 CLOCK OUT (out) "Clock Output. The signal coming out of this pin is at the internal oscillator frequency of about 2.2kHz (four times the chopping frequency) and has voltage levels at VH = VS and VL = VS -4.6. If the circuit is driven by an (See Datasheet)"

## LTC1150CS8#PBF
designator U?
Single Channel, Zero-Drift Operational Amplifier with Internal Capacitors, 2.5 MHz Typical GBW, 3 V/us Typical SR, 4.75 to 32 V, 8-Pin SOIC (S8-8), Commercial, Pb-Free; Linear Technology Part Number: LTC1150; Manufacturer: Linear Technology; PartNumber: LTC1150CS8#PBF; Channels (#): 1; GBW (MHz) Typical: 2.5; Is (mA) Typical: 0.8; SR (V/us) Typical: 3; Vos (mV) Typical: 0.0005; Vs Max (V): 32; Vs Min (V): 4.75; DatasheetVersion: Rev. B; PackageVersion: Rev G; PackageReference: LT-S8-8; PackageDescription: 8-Pin Plastic Small Outline, Body 4.9 x 3.9 mm, Pitch 1.27 mm; Supplier 1: Digi-Key; Supplier Part Number 1: LTC1150CS8#PBF-ND; Supplier 2: Farnell; Supplier Part Number 2: 1651865; Supplier 3: Newark; Supplier Part Number 3: 55M9398; RoHS: Pb-Free; Type: ZD; Mounting Technology: Surface Mount; ComponentLink1Description: Manufacturer URL; ComponentLink1URL: http://www.linear.com/; ComponentLink2Description: Datasheet; ComponentLink2URL: http://cds.linear.com/docs/en/datasheet/1150fb.pdf; ComponentLink3Description: Package Specification; ComponentLink3URL: http://cds.linear.com/docs/en/packaging/05081610_G_SO8.pdf
footprint LT-S8-8_N (SOIC, 8-Leads, Body 4.9x3.9mm, Pitch 1.27mm, IPC Medium Density)
footprint LT-S8-8_L (SOIC, 8-Leads, Body 4.9x3.9mm, Pitch 1.27mm, IPC High Density)
footprint LT-S8-8_M (SOIC, 8-Leads, Body 4.9x3.9mm, Pitch 1.27mm, IPC Low Density)
part A pins: 2 -IN (in) "Inverting Input.", 3 +IN (in) "Noninverting Input.", 4 V- (power) "Negative Supply", 6 OUT (out) "Output.", 7 V+ (power) "Positive Supply."
part B pins: 1 ISUPPLY (in) "Supply Current Programming. The supply current can be programmed through Pin 1. When Pin 1 is left open or tied to V+, the supply current defaults to 800uA. Tying a resistor between Pin 1 and Pin 4, the negative supply pin, (See Datasheet)", 5 EXT CLOCK IN (in) "Optional External Clock Input. The LTC1150 has an internal oscillator to control the circuit operation of the amplifier if Pin 5 is left open or biased at any DC voltage in the supply voltage range. When an external clock is (See Datasheet)", 8 CLOCK OUT (out) "Clock Output. The signal coming out of this pin is at the internal oscillator frequency of about 2.2kHz (four times the chopping frequency) and has voltage levels at VH = VS and VL = VS -4.6. If the circuit is driven by an (See Datasheet)"

## LTC1150CS8#TR
designator U?
Single Channel, Zero-Drift Operational Amplifier with Internal Capacitors, 2.5 MHz Typical GBW, 3 V/us Typical SR, 4.75 to 32 V, 8-Pin SOIC (S8-8), Commercial, Reel; Linear Technology Part Number: LTC1150; Manufacturer: Linear Technology; PartNumber: LTC1150CS8#TR; Channels (#): 1; GBW (MHz) Typical: 2.5; Is (mA) Typical: 0.8; SR (V/us) Typical: 3; Vos (mV) Typical: 0.0005; Vs Max (V): 32; Vs Min (V): 4.75; DatasheetVersion: Rev. B; PackageVersion: Rev G; PackageReference: LT-S8-8; PackageDescription: 8-Pin Plastic Small Outline, Body 4.9 x 3.9 mm, Pitch 1.27 mm; Supplier 1: Digi-Key; Supplier Part Number 1: LTC1150CS8#TR-ND; Supplier 2: Newark; Supplier Part Number 2: 55M9399; Packing: Reel; Type: ZD; Mounting Technology: Surface Mount; ComponentLink1Description: Manufacturer URL; ComponentLink1URL: http://www.linear.com/; ComponentLink2Description: Datasheet; ComponentLink2URL: http://cds.linear.com/docs/en/datasheet/1150fb.pdf; ComponentLink3Description: Package Specification; ComponentLink3URL: http://cds.linear.com/docs/en/packaging/05081610_G_SO8.pdf
footprint LT-S8-8_N (SOIC, 8-Leads, Body 4.9x3.9mm, Pitch 1.27mm, IPC Medium Density)
footprint LT-S8-8_L (SOIC, 8-Leads, Body 4.9x3.9mm, Pitch 1.27mm, IPC High Density)
footprint LT-S8-8_M (SOIC, 8-Leads, Body 4.9x3.9mm, Pitch 1.27mm, IPC Low Density)
part A pins: 2 -IN (in) "Inverting Input.", 3 +IN (in) "Noninverting Input.", 4 V- (power) "Negative Supply", 6 OUT (out) "Output.", 7 V+ (power) "Positive Supply."
part B pins: 1 ISUPPLY (in) "Supply Current Programming. The supply current can be programmed through Pin 1. When Pin 1 is left open or tied to V+, the supply current defaults to 800uA. Tying a resistor between Pin 1 and Pin 4, the negative supply pin, (See Datasheet)", 5 EXT CLOCK IN (in) "Optional External Clock Input. The LTC1150 has an internal oscillator to control the circuit operation of the amplifier if Pin 5 is left open or biased at any DC voltage in the supply voltage range. When an external clock is (See Datasheet)", 8 CLOCK OUT (out) "Clock Output. The signal coming out of this pin is at the internal oscillator frequency of about 2.2kHz (four times the chopping frequency) and has voltage levels at VH = VS and VL = VS -4.6. If the circuit is driven by an (See Datasheet)"